# Altium footprint library XH-MegaStar_2.5mm.PcbLib: 18 footprints (part 2 of 2)
Each footprint in its own frame and in the unit in brackets; x right, y up, seen from the top. Pads: shape width x height; smd on the part's side, far side on the other; paste and mask are expansions set on the pad; w line width, h text height; cw(c..) or ccw(c..) is an arc to the next point about the centre after c.
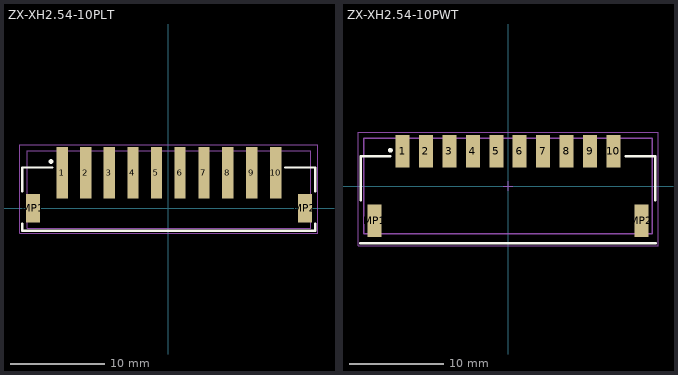
[diagram p1: the footprints below, top view; thin cyan lines are the x and y axes]

## ZX-XH2.54-10PLT [mm]
pads (12):
  rect 1.2x5.5 smd: 1(-11.25,3.75) 2(-8.75,3.75) 3(-6.25,3.75) 4(-3.75,3.75) 5(-1.25,3.75) 6(1.25,3.75) 7(3.79,3.75) 8(6.33,3.75) 9(8.87,3.75) 10(11.41,3.75)
  rect 1.5x3 smd: MP1(-14.35,0) MP2(14.51,0)
Top Overlay:
  circle w0.25: c-12.453,4.953 r0.125
  lines w0.254: -15.501,1.778 -15.501,4.318 -12.326,4.318 ; -15.494,-1.651 -15.494,-2.413 15.621,-2.413 15.621,-1.651 ; 12.446,4.318 15.621,4.318 15.621,1.778
Top Designator:
  text ".Designator" at -5.998,-0.4 h1.2
Mechanical 13:
  lines w0.127: -14.986,-2.159 -14.986,6.096 15.113,6.096 15.113,-2.159 -14.986,-2.159
Mechanical 15:
  lines w0.127: -15.748,-2.667 15.875,-2.667 15.875,6.731 -15.748,6.731 -15.748,-2.667
3D body: height 0.64, standoff 0, extent 11.073,3.937 11.708,5.683
3D body: height 0.64, standoff 0, extent -11.588,3.937 -10.953,5.683
3D body: height 0.64, standoff 0, extent 5.993,3.937 6.628,5.683
3D body: height 0.64, standoff 0, extent -6.588,3.937 -5.953,5.683
3D body: height 0.64, standoff 0, extent 0.953,3.937 1.587,5.683
3D body: height 0.64, standoff 0, extent -1.587,3.937 -0.953,5.683
3D body: height 8, standoff 0, extent -14.859,-2.032 14.986,3.937
3D body: height 0.64, standoff 0, extent -4.088,3.937 -3.453,5.683
3D body: height 0.64, standoff 0, extent 3.492,3.937 4.127,5.683
3D body: height 0.64, standoff 0, extent -9.088,3.937 -8.453,5.683
3D body: height 0.64, standoff 0, extent 8.533,3.937 9.168,5.683

## ZX-XH2.54-10PWT [mm] "2.54mm Male Left Angled Header Bottom Locking, 10p, SMD"
pads (12):
  rect 1.5x3.5 smd: 1(-11.25,3.7) 2(-8.75,3.7) 3(-6.25,3.7) 4(-3.75,3.7) 5(-1.25,3.7) 6(1.25,3.7) 7(3.75,3.7) 8(6.25,3.7) 9(8.75,3.7) 10(11.25,3.7) MP1(-14.23,-3.7) MP2(14.23,-3.7)
Top Overlay:
  circle w0.25: c-12.54,3.81 r0.125
  lines w0.254: -15.748,-6.096 15.748,-6.096 ; -15.715,-1.524 -15.715,3.175 -12.54,3.175 ; 12.54,3.175 15.715,3.175 15.715,-1.524
Top Designator:
  text ".Designator" at -5.998,-0.4 h1.2
Mechanical 13:
  lines w0.152: -15.367,-5.08 -15.367,5.08 15.367,5.08 15.367,-5.08 -15.367,-5.08
Mechanical 15:
  lines w0.05: -0.508,0 0.508,0 ; 0,-0.508 0,0.508
  lines w0.127: -16.002,-6.35 16.002,-6.35 16.002,5.715 -16.002,5.715 -16.002,-6.35
3D body "JST - XH - SMD (R) - 10Pin - 2.54mm.stp": height 5.92, standoff 0, extent -15.227,-4.953 15.227,4.953